# Altium footprint library CONN_HDR_2.54MM_BOX_IDC.PcbLib: 37 footprints (part 2 of 3)
Each footprint in its own frame and in the unit in brackets; x right, y up, seen from the top. Pads: shape width x height; smd on the part's side, far side on the other; paste and mask are expansions set on the pad; w line width, h text height; cw(c..) or ccw(c..) is an arc to the next point about the centre after c.
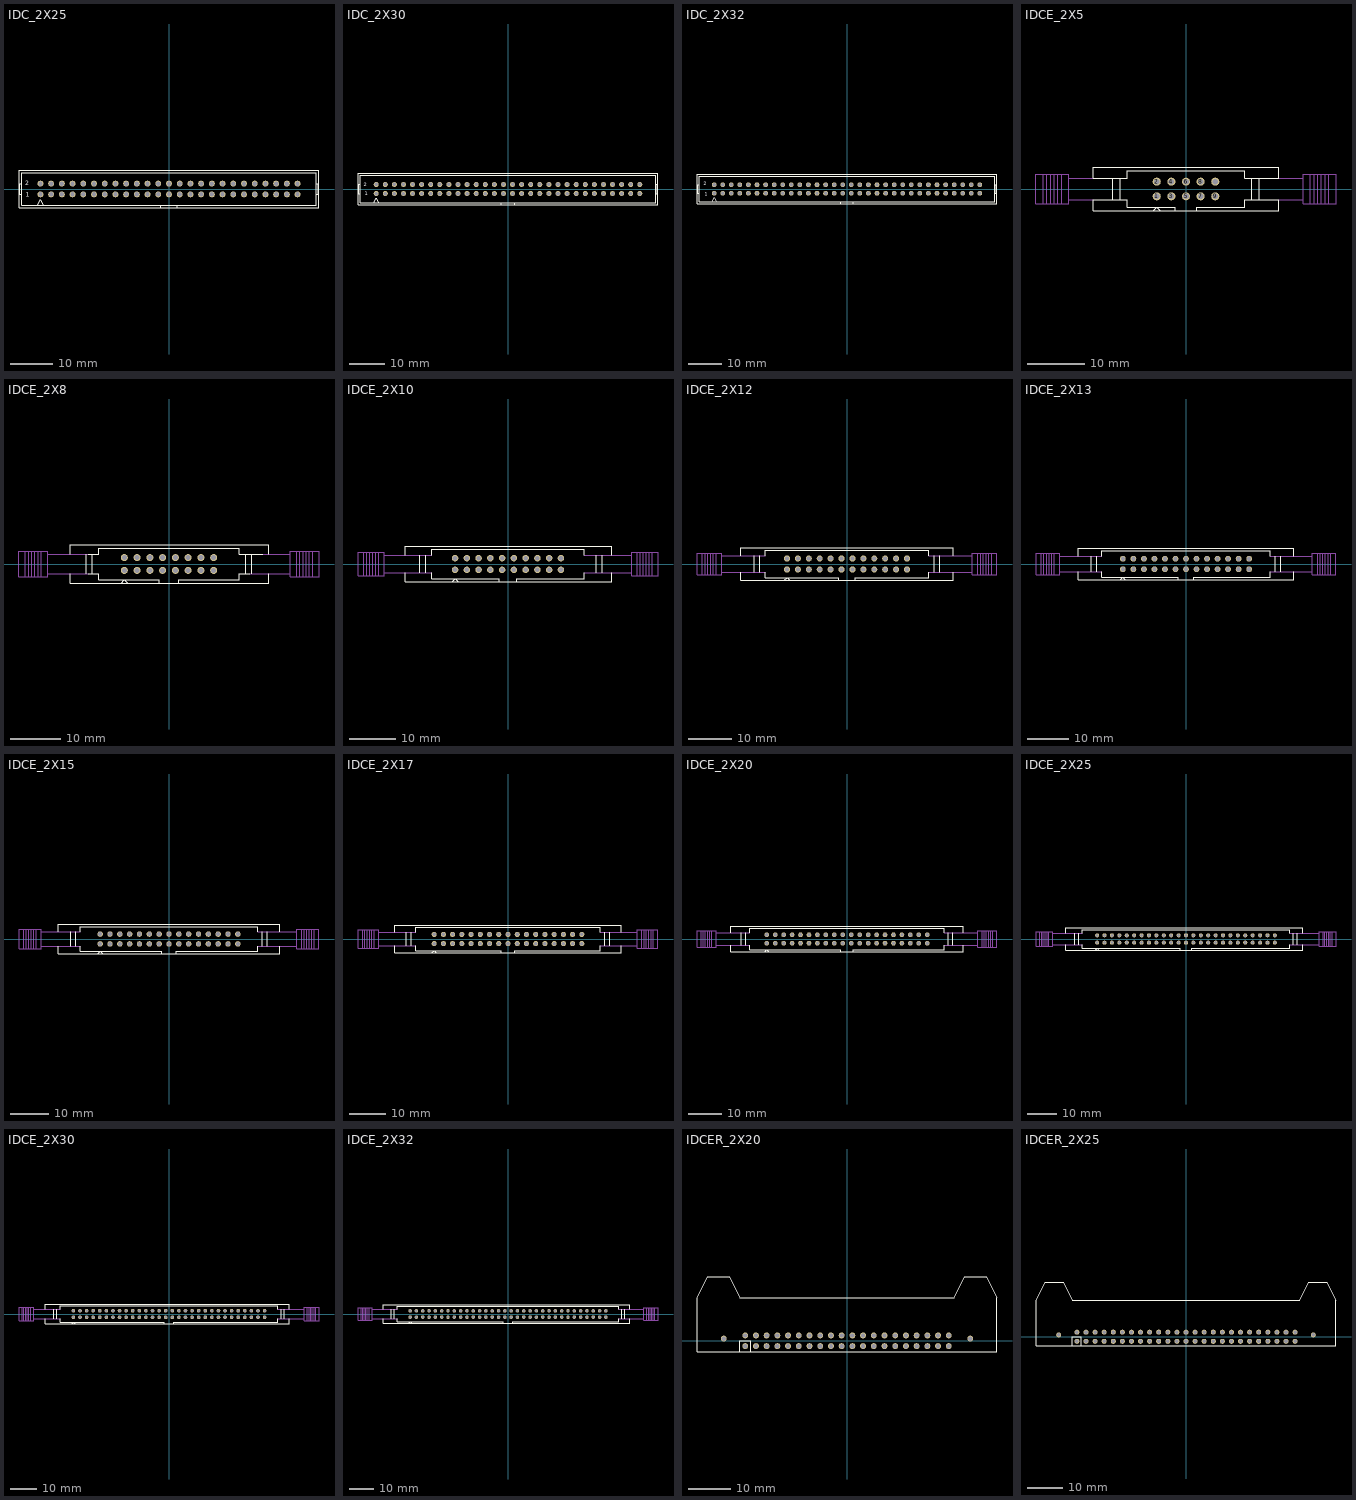
[diagram p1: the footprints below, top view; thin cyan lines are the x and y axes]

## IDC_2X25 [mm]
pads (50):
  round 1.4 / inner round 1.4 / far side oval 1.4x2.2 hole 1 mask+0.1: 1(-30.48,-1.27) 2(-30.48,1.27) 3(-27.94,-1.27) 4(-27.94,1.27) 5(-25.4,-1.27) 6(-25.4,1.27) 7(-22.86,-1.27) 8(-22.86,1.27) 9(-20.32,-1.27) 10(-20.32,1.27) 11(-17.78,-1.27) 12(-17.78,1.27) 13(-15.24,-1.27) 14(-15.24,1.27) 15(-12.7,-1.27) 16(-12.7,1.27) 17(-10.16,-1.27) 18(-10.16,1.27) 19(-7.62,-1.27) 20(-7.62,1.27) 21(-5.08,-1.27) 22(-5.08,1.27) 23(-2.54,-1.27) 24(-2.54,1.27) 25(0,-1.27) 26(0,1.27) 27(2.54,-1.27) 28(2.54,1.27) 29(5.08,-1.27) 30(5.08,1.27) 31(7.62,-1.27) 32(7.62,1.27) 33(10.16,-1.27) 34(10.16,1.27) 35(12.7,-1.27) 36(12.7,1.27) 37(15.24,-1.27) 38(15.24,1.27) 39(17.78,-1.27) 40(17.78,1.27) 41(20.32,-1.27) 42(20.32,1.27) 43(22.86,-1.27) 44(22.86,1.27) 45(25.4,-1.27) 46(25.4,1.27) 47(27.94,-1.27) 48(27.94,1.27) 49(30.48,-1.27) 50(30.48,1.27)
Top Overlay:
  lines w0.2: -35.56,-1.27 -34.925,-1.27 ; -35.56,1.27 -34.925,1.27 ; -35.348,-1.27 -35.348,1.27 ; -31.115,-3.81 -30.48,-2.54 -29.845,-3.81 ; -1.905,-4.445 -1.905,-3.81 ; 1.905,-4.445 1.905,-3.81 ; 34.925,-1.27 35.56,-1.27 ; 34.925,1.27 35.56,1.27 ; 35.348,-1.27 35.348,1.27 ; -1.905,-3.81 1.905,-3.81 ; -1.905,-3.81 -34.925,-3.81 -34.925,3.81 34.925,3.81 34.925,-3.81 1.905,-3.81 ; -35.56,-4.445 35.56,-4.445 35.56,4.445 -35.56,4.445 -35.56,-4.445
  text "2" at -34.112,0.864 h1
  text "1" at -33.909,-1.803 h1
3D body "61205021621.stp": height 9.13, standoff -2.98, extent -35.58,-4.425 35.58,4.75

## IDC_2X30 [mm]
pads (60):
  round 1.4 / inner round 1.4 / far side oval 1.4x2.2 hole 1 mask+0.1: 1(-36.83,-1.27) 2(-36.83,1.27) 3(-34.29,-1.27) 4(-34.29,1.27) 5(-31.75,-1.27) 6(-31.75,1.27) 7(-29.21,-1.27) 8(-29.21,1.27) 9(-26.67,-1.27) 10(-26.67,1.27) 11(-24.13,-1.27) 12(-24.13,1.27) 13(-21.59,-1.27) 14(-21.59,1.27) 15(-19.05,-1.27) 16(-19.05,1.27) 17(-16.51,-1.27) 18(-16.51,1.27) 19(-13.97,-1.27) 20(-13.97,1.27) 21(-11.43,-1.27) 22(-11.43,1.27) 23(-8.89,-1.27) 24(-8.89,1.27) 25(-6.35,-1.27) 26(-6.35,1.27) 27(-3.81,-1.27) 28(-3.81,1.27) 29(-1.27,-1.27) 30(-1.27,1.27) 31(1.27,-1.27) 32(1.27,1.27) 33(3.81,-1.27) 34(3.81,1.27) 35(6.35,-1.27) 36(6.35,1.27) 37(8.89,-1.27) 38(8.89,1.27) 39(11.43,-1.27) 40(11.43,1.27) 41(13.97,-1.27) 42(13.97,1.27) 43(16.51,-1.27) 44(16.51,1.27) 45(19.05,-1.27) 46(19.05,1.27) 47(21.59,-1.27) 48(21.59,1.27) 49(24.13,-1.27) 50(24.13,1.27) 51(26.67,-1.27) 52(26.67,1.27) 53(29.21,-1.27) 54(29.21,1.27) 55(31.75,-1.27) 56(31.75,1.27) 57(34.29,-1.27) 58(34.29,1.27) 59(36.83,-1.27) 60(36.83,1.27)
Top Overlay:
  lines w0.2: -41.91,-1.27 -41.275,-1.27 ; -41.91,1.27 -41.275,1.27 ; -41.698,-1.27 -41.698,1.27 ; -37.465,-3.81 -36.83,-2.54 -36.195,-3.81 ; -1.905,-4.445 -1.905,-3.81 ; 1.905,-4.445 1.905,-3.81 ; 41.275,-1.27 41.91,-1.27 ; 41.275,1.27 41.91,1.27 ; 41.698,-1.27 41.698,1.27 ; -1.905,-3.81 1.905,-3.81 ; -1.905,-3.81 -41.275,-3.81 -41.275,3.81 41.275,3.81 41.275,-3.81 1.905,-3.81 ; -41.91,-4.445 41.91,-4.445 41.91,4.445 -41.91,4.445 -41.91,-4.445
  text "1" at -40.03,-1.676 h1
  text "2" at -40.259,0.813 h1
3D body "61206021621.stp": height 9.13, standoff -2.98, extent -41.93,-4.425 41.93,4.75

## IDC_2X32 [mm]
pads (64):
  round 1.4 / inner round 1.4 / far side oval 1.4x2.2 hole 1 mask+0.1: 1(-39.37,-1.27) 2(-39.37,1.27) 3(-36.83,-1.27) 4(-36.83,1.27) 5(-34.29,-1.27) 6(-34.29,1.27) 7(-31.75,-1.27) 8(-31.75,1.27) 9(-29.21,-1.27) 10(-29.21,1.27) 11(-26.67,-1.27) 12(-26.67,1.27) 13(-24.13,-1.27) 14(-24.13,1.27) 15(-21.59,-1.27) 16(-21.59,1.27) 17(-19.05,-1.27) 18(-19.05,1.27) 19(-16.51,-1.27) 20(-16.51,1.27) 21(-13.97,-1.27) 22(-13.97,1.27) 23(-11.43,-1.27) 24(-11.43,1.27) 25(-8.89,-1.27) 26(-8.89,1.27) 27(-6.35,-1.27) 28(-6.35,1.27) 29(-3.81,-1.27) 30(-3.81,1.27) 31(-1.27,-1.27) 32(-1.27,1.27) 33(1.27,-1.27) 34(1.27,1.27) 35(3.81,-1.27) 36(3.81,1.27) 37(6.35,-1.27) 38(6.35,1.27) 39(8.89,-1.27) 40(8.89,1.27) 41(11.43,-1.27) 42(11.43,1.27) 43(13.97,-1.27) 44(13.97,1.27) 45(16.51,-1.27) 46(16.51,1.27) 47(19.05,-1.27) 48(19.05,1.27) 49(21.59,-1.27) 50(21.59,1.27) 51(24.13,-1.27) 52(24.13,1.27) 53(26.67,-1.27) 54(26.67,1.27) 55(29.21,-1.27) 56(29.21,1.27) 57(31.75,-1.27) 58(31.75,1.27) 59(34.29,-1.27) 60(34.29,1.27) 61(36.83,-1.27) 62(36.83,1.27) 63(39.37,-1.27) 64(39.37,1.27)
Top Overlay:
  lines w0.2: -44.45,-1.27 -43.815,-1.27 ; -44.45,1.27 -43.815,1.27 ; -44.238,-1.27 -44.238,1.27 ; -40.005,-3.81 -39.37,-2.54 -38.735,-3.81 ; -1.905,-4.445 -1.905,-3.81 ; 1.905,-4.445 1.905,-3.81 ; 43.815,-1.27 44.45,-1.27 ; 43.815,1.27 44.45,1.27 ; 44.238,-1.27 44.238,1.27 ; -1.905,-3.81 1.905,-3.81 ; -1.905,-3.81 -43.815,-3.81 -43.815,3.81 43.815,3.81 43.815,-3.81 1.905,-3.81 ; -44.45,-4.445 44.45,-4.445 44.45,4.445 -44.45,4.445 -44.45,-4.445
  text "2" at -42.393,1.041 h1
  text "1" at -42.164,-1.93 h1
3D body "61206421621.stp": height 9.13, standoff -2.98, extent -44.47,-4.425 44.47,4.75

## IDCE_2X5 [mm]
pads (10):
  round 1.4 / inner round 1.4 / far side oval 1.4x2.2 hole 1 mask+0.1: 1(-5.08,-1.27) 2(-5.08,1.27) 3(-2.54,-1.27) 4(-2.54,1.27) 5(0,-1.27) 6(0,1.27) 7(2.54,-1.27) 8(2.54,1.27) 9(5.08,-1.27) 10(5.08,1.27)
Top Overlay:
  lines w0.2: -12.7,-1.905 -12.7,1.905 ; -11.43,-1.905 -11.43,1.905 ; -5.715,-3.81 -5.08,-3.175 -4.445,-3.81 ; -1.905,-3.81 -1.905,-3.175 -10.16,-3.175 -10.16,-1.905 -16.087,-1.905 -16.087,-3.81 16.087,-3.81 16.087,-1.905 10.16,-1.905 10.16,-3.175 1.905,-3.175 1.905,-3.81 ; 11.43,-1.905 11.43,1.905 ; 12.7,-1.905 12.7,1.905 ; -16.087,1.905 -16.087,3.81 16.087,3.81 16.087,1.905 10.16,1.905 10.16,3.175 -10.16,3.175 -10.16,1.905 -16.087,1.905
Mechanical 5:
  lines w0.2: -24.765,-2.54 -24.765,2.54 ; -24.13,-2.54 -24.13,2.54 ; -23.495,-2.54 -23.495,2.54 ; -22.86,-2.54 -22.86,2.54 ; -22.225,-2.54 -22.225,2.54 ; -21.59,-2.54 -21.59,2.54 ; -20.32,-1.905 -16.087,-1.905 ; -20.32,1.905 -16.087,1.905 ; 16.087,-1.905 20.32,-1.905 ; 16.087,1.905 20.32,1.905 ; 21.59,-2.54 21.59,2.54 ; 22.225,-2.54 22.225,2.54 ; 22.86,-2.54 22.86,2.54 ; 23.495,-2.54 23.495,2.54 ; 24.13,-2.54 24.13,2.54 ; 24.765,-2.54 24.765,2.54 ; -26.035,-2.54 -20.32,-2.54 -20.32,2.54 -26.035,2.54 -26.035,-2.54 ; 20.32,-2.54 20.32,2.54 26.035,2.54 26.035,-2.54 20.32,-2.54

## IDCE_2X8 [mm]
pads (16):
  round 1.4 / inner round 1.4 / far side oval 1.4x2.2 hole 1 mask+0.1: 1(-8.89,-1.27) 2(-8.89,1.27) 3(-6.35,-1.27) 4(-6.35,1.27) 5(-3.81,-1.27) 6(-3.81,1.27) 7(-1.27,-1.27) 8(-1.27,1.27) 9(1.27,-1.27) 10(1.27,1.27) 11(3.81,-1.27) 12(3.81,1.27) 13(6.35,-1.27) 14(6.35,1.27) 15(8.89,-1.27) 16(8.89,1.27)
Top Overlay:
  lines w0.2: -19.685,-1.905 -19.685,-3.81 19.897,-3.81 19.897,-1.905 ; -19.685,1.905 -19.685,3.81 19.897,3.81 19.897,1.905 ; -16.51,-1.905 -16.51,1.905 ; -16.087,-1.905 -13.97,-1.905 -13.97,-3.175 -1.905,-3.175 -1.905,-3.81 ; -16.087,1.905 -13.97,1.905 -13.97,3.175 13.97,3.175 13.97,1.905 18.627,1.905 ; -15.24,-1.905 -15.24,1.905 ; -9.525,-3.81 -8.89,-3.175 -8.255,-3.81 ; 1.905,-3.81 1.905,-3.175 13.97,-3.175 13.97,-1.905 16.087,-1.905 ; 15.24,-1.905 15.24,1.905 ; 16.51,-1.905 16.51,1.905
Mechanical 5:
  lines w0.2: -28.575,-2.54 -28.575,2.54 ; -27.94,-2.54 -27.94,2.54 ; -27.305,-2.54 -27.305,2.54 ; -26.67,-2.54 -26.67,2.54 ; -26.035,-2.54 -26.035,2.54 ; -25.4,-2.54 -25.4,2.54 ; -24.13,-1.905 -16.087,-1.905 ; -24.13,1.905 -16.087,1.905 ; 16.087,-1.905 24.13,-1.905 ; 18.627,1.905 24.13,1.905 ; 25.4,-2.54 25.4,2.54 ; 26.035,-2.54 26.035,2.54 ; 26.67,-2.54 26.67,2.54 ; 27.305,-2.54 27.305,2.54 ; 27.94,-2.54 27.94,2.54 ; 28.575,-2.54 28.575,2.54 ; -29.845,-2.54 -24.13,-2.54 -24.13,2.54 -29.845,2.54 -29.845,-2.54 ; 24.13,-2.54 24.13,2.54 29.845,2.54 29.845,-2.54 24.13,-2.54

## IDCE_2X10 [mm]
pads (20):
  round 1.4 / inner round 1.4 / far side oval 1.4x2.2 hole 1 mask+0.1: 1(-11.43,-1.27) 2(-11.43,1.27) 3(-8.89,-1.27) 4(-8.89,1.27) 5(-6.35,-1.27) 6(-6.35,1.27) 7(-3.81,-1.27) 8(-3.81,1.27) 9(-1.27,-1.27) 10(-1.27,1.27) 11(1.27,-1.27) 12(1.27,1.27) 13(3.81,-1.27) 14(3.81,1.27) 15(6.35,-1.27) 16(6.35,1.27) 17(8.89,-1.27) 18(8.89,1.27) 19(11.43,-1.27) 20(11.43,1.27)
Top Overlay:
  lines w0.2: -22.225,-1.905 -22.225,-3.81 22.437,-3.81 22.437,-1.905 ; -22.225,1.905 -22.225,3.81 22.437,3.81 22.437,1.905 ; -19.05,-1.905 -19.05,1.905 ; -17.78,-1.905 -17.78,1.905 ; -16.51,-1.905 -16.51,-3.175 -1.905,-3.175 -1.905,-3.81 ; -16.51,1.905 -16.51,3.175 16.51,3.175 16.51,1.905 ; -12.065,-3.81 -11.43,-3.175 -10.795,-3.81 ; 1.905,-3.81 1.905,-3.175 16.51,-3.175 16.51,-1.905 ; 19.05,-1.905 19.05,1.905 ; 20.32,-1.905 20.32,1.905
Mechanical 5:
  lines w0.2: -31.115,-2.54 -31.115,2.54 ; -30.48,-2.54 -30.48,2.54 ; -29.845,-2.54 -29.845,2.54 ; -29.21,-2.54 -29.21,2.54 ; -28.575,-2.54 -28.575,2.54 ; -27.94,-2.54 -27.94,2.54 ; -26.67,-1.905 -16.51,-1.905 ; -26.67,1.905 -16.51,1.905 ; 16.51,-1.905 26.67,-1.905 ; 16.51,1.905 26.67,1.905 ; 27.94,-2.54 27.94,2.54 ; 28.575,-2.54 28.575,2.54 ; 29.21,-2.54 29.21,2.54 ; 29.845,-2.54 29.845,2.54 ; 30.48,-2.54 30.48,2.54 ; 31.115,-2.54 31.115,2.54 ; -32.385,-2.54 -32.385,2.54 -26.67,2.54 -26.67,-2.54 -32.385,-2.54 ; 26.67,-2.54 26.67,2.54 32.385,2.54 32.385,-2.54 26.67,-2.54

## IDCE_2X12 [mm]
pads (24):
  round 1.4 / inner round 1.4 / far side oval 1.4x2.2 hole 1 mask+0.1: 1(-13.97,-1.27) 2(-13.97,1.27) 3(-11.43,-1.27) 4(-11.43,1.27) 5(-8.89,-1.27) 6(-8.89,1.27) 7(-6.35,-1.27) 8(-6.35,1.27) 9(-3.81,-1.27) 10(-3.81,1.27) 11(-1.27,-1.27) 12(-1.27,1.27) 13(1.27,-1.27) 14(1.27,1.27) 15(3.81,-1.27) 16(3.81,1.27) 17(6.35,-1.27) 18(6.35,1.27) 19(8.89,-1.27) 20(8.89,1.27) 21(11.43,-1.27) 22(11.43,1.27) 22(13.97,-1.27) 24(13.97,1.27)
Top Overlay:
  lines w0.2: -24.765,-1.905 -24.765,-3.81 24.765,-3.81 24.765,-1.905 ; -24.765,1.905 -24.765,3.81 24.765,3.81 24.765,1.905 ; -21.59,-1.905 -21.59,1.905 ; -20.32,-1.905 -20.32,1.905 ; -19.05,-1.905 -19.05,-3.175 -1.905,-3.175 -1.905,-3.81 ; -19.05,1.905 -19.05,3.175 19.05,3.175 19.05,1.905 ; -13.97,-3.81 -14.605,-3.81 -13.97,-3.175 -13.335,-3.81 ; 1.905,-3.81 1.905,-3.175 19.05,-3.175 19.05,-1.905 ; 20.32,-1.905 20.32,1.905 ; 21.59,-1.905 21.59,1.905
Mechanical 5:
  lines w0.2: -33.655,-2.54 -33.655,2.54 ; -33.02,-2.54 -33.02,2.54 ; -32.385,-2.54 -32.385,2.54 ; -31.75,-2.54 -31.75,2.54 ; -31.115,-2.54 -31.115,2.54 ; -30.48,-2.54 -30.48,2.54 ; -29.21,-1.905 -19.05,-1.905 ; -29.21,1.905 -19.05,1.905 ; 19.05,-1.905 29.21,-1.905 ; 19.05,1.905 29.21,1.905 ; 30.48,-2.54 30.48,2.54 ; 31.115,-2.54 31.115,2.54 ; 31.75,-2.54 31.75,2.54 ; 32.385,-2.54 32.385,2.54 ; 33.02,-2.54 33.02,2.54 ; 33.655,-2.54 33.655,2.54 ; -34.925,-2.54 -29.21,-2.54 -29.21,2.54 -34.925,2.54 -34.925,-2.54 ; 29.21,-2.54 34.925,-2.54 34.925,2.54 29.21,2.54 29.21,-2.54

## IDCE_2X13 [mm]
pads (26):
  round 1.4 / inner round 1.4 / far side oval 1.4x2.2 hole 1 mask+0.1: 1(-15.24,-1.27) 2(-15.24,1.27) 3(-12.7,-1.27) 4(-12.7,1.27) 5(-10.16,-1.27) 6(-10.16,1.27) 7(-7.62,-1.27) 8(-7.62,1.27) 9(-5.08,-1.27) 10(-5.08,1.27) 11(-2.54,-1.27) 12(-2.54,1.27) 13(0,-1.27) 14(0,1.27) 15(2.54,-1.27) 16(2.54,1.27) 17(5.08,-1.27) 18(5.08,1.27) 19(7.62,-1.27) 20(7.62,1.27) 21(10.16,-1.27) 22(10.16,1.27) 23(12.7,-1.27) 24(12.7,1.27) 25(15.24,-1.27) 26(15.24,1.27)
Top Overlay:
  lines w0.2: -26.035,-1.905 -26.035,-3.81 26.035,-3.81 26.035,-1.905 ; -26.035,1.905 -26.035,3.81 26.035,3.81 26.035,1.905 ; -22.86,-1.905 -22.86,1.905 ; -21.59,-1.905 -21.59,1.905 ; -20.32,-1.905 -20.32,-3.175 -1.905,-3.175 -1.905,-3.81 ; -20.32,1.905 -20.32,3.175 20.32,3.175 20.32,1.905 ; -15.875,-3.81 -15.24,-3.175 -14.605,-3.81 ; 1.905,-3.81 1.905,-3.175 20.32,-3.175 20.32,-1.905 ; 21.59,-1.905 21.59,1.905 ; 22.86,-1.905 22.86,1.905
Mechanical 5:
  lines w0.2: -34.925,-2.54 -34.925,2.54 ; -34.29,-2.54 -34.29,2.54 ; -33.655,-2.54 -33.655,2.54 ; -33.02,-2.54 -33.02,2.54 ; -32.385,-2.54 -32.385,2.54 ; -31.75,-2.54 -31.75,2.54 ; -30.48,-1.905 -20.32,-1.905 ; -30.48,1.905 -20.32,1.905 ; 20.32,-1.905 30.48,-1.905 ; 20.32,1.905 30.48,1.905 ; 31.75,-2.54 31.75,2.54 ; 32.385,-2.54 32.385,2.54 ; 33.02,-2.54 33.02,2.54 ; 33.655,-2.54 33.655,2.54 ; 34.29,-2.54 34.29,2.54 ; 34.925,-2.54 34.925,2.54 ; -36.195,-2.54 -30.48,-2.54 -30.48,2.54 -36.195,2.54 -36.195,-2.54 ; 30.48,-2.54 36.195,-2.54 36.195,2.54 30.48,2.54 30.48,-2.54

## IDCE_2X15 [mm]
pads (30):
  round 1.4 / inner round 1.4 / far side oval 1.4x2.2 hole 1 mask+0.1: 1(-17.78,-1.27) 2(-17.78,1.27) 3(-15.24,-1.27) 4(-15.24,1.27) 5(-12.7,-1.27) 6(-12.7,1.27) 7(-10.16,-1.27) 8(-10.16,1.27) 9(-7.62,-1.27) 10(-7.62,1.27) 11(-5.08,-1.27) 12(-5.08,1.27) 13(-2.54,-1.27) 14(-2.54,1.27) 15(0,-1.27) 16(0,1.27) 17(2.54,-1.27) 18(2.54,1.27) 19(5.08,-1.27) 20(5.08,1.27) 21(7.62,-1.27) 22(7.62,1.27) 23(10.16,-1.27) 24(10.16,1.27) 25(12.7,-1.27) 26(12.7,1.27) 27(15.24,-1.27) 28(15.24,1.27) 29(17.78,-1.27) 30(17.78,1.27)
Top Overlay:
  lines w0.2: -28.575,-1.905 -28.575,-3.81 28.575,-3.81 28.575,-1.905 ; -28.575,1.905 -28.575,3.81 28.575,3.81 28.575,1.905 ; -25.4,-1.905 -25.4,1.905 ; -24.13,-1.905 -24.13,1.905 ; -22.86,-1.905 -22.86,-3.175 -1.905,-3.175 -1.905,-3.81 ; -22.86,1.905 -22.86,3.175 22.86,3.175 22.86,1.905 ; -18.415,-3.81 -17.78,-3.175 -17.145,-3.81 ; 1.905,-3.81 1.905,-3.175 22.86,-3.175 22.86,-1.905 ; 24.13,-1.905 24.13,1.905 ; 25.4,-1.905 25.4,1.905
Mechanical 5:
  lines w0.2: -37.465,-2.54 -37.465,2.54 ; -36.83,-2.54 -36.83,2.54 ; -36.195,-2.54 -36.195,2.54 ; -35.56,-2.54 -35.56,2.54 ; -34.925,-2.54 -34.925,2.54 ; -34.29,-2.54 -34.29,2.54 ; -33.02,-1.905 -22.86,-1.905 ; -33.02,1.905 -22.86,1.905 ; 22.86,-1.905 33.02,-1.905 ; 22.86,1.905 33.02,1.905 ; 34.29,-2.54 34.29,2.54 ; 34.925,-2.54 34.925,2.54 ; 35.56,-2.54 35.56,2.54 ; 36.195,-2.54 36.195,2.54 ; 36.83,-2.54 36.83,2.54 ; 37.465,-2.54 37.465,2.54 ; -38.735,-2.54 -38.735,2.54 -33.02,2.54 -33.02,-2.54 -38.735,-2.54 ; 33.02,-2.54 38.735,-2.54 38.735,2.54 33.02,2.54 33.02,-2.54

## IDCE_2X17 [mm]
pads (34):
  round 1.4 / inner round 1.4 / far side oval 1.4x2.2 hole 1 mask+0.1: 1(-20.32,-1.27) 2(-20.32,1.27) 3(-17.78,-1.27) 4(-17.78,1.27) 5(-15.24,-1.27) 6(-15.24,1.27) 7(-12.7,-1.27) 8(-12.7,1.27) 9(-10.16,-1.27) 10(-10.16,1.27) 11(-7.62,-1.27) 12(-7.62,1.27) 13(-5.08,-1.27) 14(-5.08,1.27) 15(-2.54,-1.27) 16(-2.54,1.27) 17(0,-1.27) 18(0,1.27) 19(2.54,-1.27) 20(2.54,1.27) 21(5.08,-1.27) 22(5.08,1.27) 23(7.62,-1.27) 24(7.62,1.27) 25(10.16,-1.27) 26(10.16,1.27) 27(12.7,-1.27) 28(12.7,1.27) 29(15.24,-1.27) 30(15.24,1.27) 31(17.78,-1.27) 32(17.78,1.27) 33(20.32,-1.27) 34(20.32,1.27)
Top Overlay:
  lines w0.2: -31.115,-1.905 -31.115,-3.81 31.115,-3.81 31.115,-1.905 ; -31.115,1.905 -31.115,3.81 31.115,3.81 31.115,1.905 ; -27.94,-1.905 -27.94,1.905 ; -26.67,-1.905 -26.67,1.905 ; -25.4,-1.905 -25.4,-3.175 -1.905,-3.175 -1.905,-3.81 ; -25.4,1.905 -25.4,3.175 25.4,3.175 25.4,1.905 ; -20.955,-3.81 -20.32,-3.175 -19.685,-3.81 ; 1.905,-3.81 1.905,-3.175 25.4,-3.175 25.4,-1.905 ; 26.67,-1.905 26.67,1.905 ; 27.94,-1.905 27.94,1.905
Mechanical 5:
  lines w0.2: -40.005,-2.54 -40.005,2.54 ; -39.37,-2.54 -39.37,2.54 ; -38.735,-2.54 -38.735,2.54 ; -38.1,-2.54 -38.1,2.54 ; -37.465,-2.54 -37.465,2.54 ; -36.83,-2.54 -36.83,2.54 ; -35.56,-1.905 -25.4,-1.905 ; -35.56,1.905 -25.4,1.905 ; 25.4,-1.905 35.56,-1.905 ; 25.4,1.905 35.56,1.905 ; 36.83,-2.54 36.83,2.54 ; 37.465,-2.54 37.465,2.54 ; 38.1,-2.54 38.1,2.54 ; 38.735,-2.54 38.735,2.54 ; 39.37,-2.54 39.37,2.54 ; 40.005,-2.54 40.005,2.54 ; -41.275,-2.54 -35.56,-2.54 -35.56,2.54 -41.275,2.54 -41.275,-2.54 ; 35.56,-2.54 41.275,-2.54 41.275,2.54 35.56,2.54 35.56,-2.54

## IDCE_2X20 [mm]
pads (40):
  round 1.4 / inner round 1.4 / far side oval 1.4x2.2 hole 1 mask+0.1: 1(-24.13,-1.27) 2(-24.13,1.27) 3(-21.59,-1.27) 4(-21.59,1.27) 5(-19.05,-1.27) 6(-19.05,1.27) 7(-16.51,-1.27) 8(-16.51,1.27) 9(-13.97,-1.27) 10(-13.97,1.27) 11(-11.43,-1.27) 12(-11.43,1.27) 13(-8.89,-1.27) 14(-8.89,1.27) 15(-6.35,-1.27) 16(-6.35,1.27) 17(-3.81,-1.27) 18(-3.81,1.27) 19(-1.27,-1.27) 20(-1.27,1.27) 21(1.27,-1.27) 22(1.27,1.27) 23(3.81,-1.27) 24(3.81,1.27) 25(6.35,-1.27) 26(6.35,1.27) 27(8.89,-1.27) 28(8.89,1.27) 29(11.43,-1.27) 30(11.43,1.27) 31(13.97,-1.27) 32(13.97,1.27) 33(16.51,-1.27) 34(16.51,1.27) 35(19.05,-1.27) 36(19.05,1.27) 37(21.59,-1.27) 38(21.59,1.27) 39(24.13,-1.27) 40(24.13,1.27)
Top Overlay:
  lines w0.2: -34.925,-1.905 -34.925,-3.81 34.925,-3.81 34.925,-1.905 ; -34.925,1.905 -34.925,3.81 34.925,3.81 34.925,1.905 ; -31.75,-1.905 -31.75,1.905 ; -30.48,-1.905 -30.48,1.905 ; -29.21,-1.905 -29.21,-3.175 -1.905,-3.175 -1.905,-3.81 ; -29.21,1.905 -29.21,3.175 29.21,3.175 29.21,1.905 ; -24.765,-3.81 -24.13,-3.175 -23.495,-3.81 ; 1.905,-3.81 1.905,-3.175 29.21,-3.175 29.21,-1.905 ; 30.48,-1.905 30.48,1.905 ; 31.75,-1.905 31.75,1.905
Mechanical 5:
  lines w0.2: -43.815,-2.54 -43.815,2.54 ; -43.18,-2.54 -43.18,2.54 ; -42.545,-2.54 -42.545,2.54 ; -41.91,-2.54 -41.91,2.54 ; -41.275,-2.54 -41.275,2.54 ; -40.64,-2.54 -40.64,2.54 ; -39.37,-1.905 -29.21,-1.905 ; -39.37,1.905 -29.21,1.905 ; 29.21,-1.905 39.37,-1.905 ; 29.21,1.905 39.37,1.905 ; 40.64,-2.54 40.64,2.54 ; 41.275,-2.54 41.275,2.54 ; 41.91,-2.54 41.91,2.54 ; 42.545,-2.54 42.545,2.54 ; 43.18,-2.54 43.18,2.54 ; 43.815,-2.54 43.815,2.54 ; -45.085,-2.54 -45.085,2.54 -39.37,2.54 -39.37,-2.54 -45.085,-2.54 ; 39.37,-2.54 39.37,2.54 45.085,2.54 45.085,-2.54 39.37,-2.54

## IDCE_2X25 [mm]
pads (50):
  round 1.4 / inner round 1.4 / far side oval 1.4x2.2 hole 1 mask+0.1: 1(-30.48,-1.27) 2(-30.48,1.27) 3(-27.94,-1.27) 4(-27.94,1.27) 5(-25.4,-1.27) 6(-25.4,1.27) 7(-22.86,-1.27) 8(-22.86,1.27) 9(-20.32,-1.27) 10(-20.32,1.27) 11(-17.78,-1.27) 12(-17.78,1.27) 13(-15.24,-1.27) 14(-15.24,1.27) 15(-12.7,-1.27) 16(-12.7,1.27) 17(-10.16,-1.27) 18(-10.16,1.27) 19(-7.62,-1.27) 20(-7.62,1.27) 21(-5.08,-1.27) 22(-5.08,1.27) 23(-2.54,-1.27) 24(-2.54,1.27) 25(0,-1.27) 26(0,1.27) 27(2.54,-1.27) 28(2.54,1.27) 29(5.08,-1.27) 30(5.08,1.27) 31(7.62,-1.27) 32(7.62,1.27) 33(10.16,-1.27) 34(10.16,1.27) 35(12.7,-1.27) 36(12.7,1.27) 37(15.24,-1.27) 38(15.24,1.27) 39(17.78,-1.27) 40(17.78,1.27) 41(20.32,-1.27) 42(20.32,1.27) 43(22.86,-1.27) 44(22.86,1.27) 45(25.4,-1.27) 46(25.4,1.27) 47(27.94,-1.27) 48(27.94,1.27) 49(30.48,-1.27) 50(30.48,1.27)
Top Overlay:
  lines w0.2: -41.275,-1.905 -41.275,-3.81 40.005,-3.81 40.005,-1.905 ; -41.275,1.905 -41.275,3.81 40.005,3.81 40.005,1.905 ; -38.1,-1.905 -38.1,1.905 ; -36.83,-1.905 -36.83,1.905 ; -35.56,-1.905 -35.56,-3.175 -1.905,-3.175 -1.905,-3.81 ; -35.56,1.905 -35.56,3.175 35.56,3.175 35.56,1.905 ; -31.115,-3.81 -30.48,-3.175 -29.845,-3.81 ; 1.905,-3.81 1.905,-3.175 35.56,-3.175 35.56,-1.905 ; 36.83,-1.905 36.83,1.905 ; 38.1,-1.905 38.1,1.905
Mechanical 5:
  lines w0.2: -50.165,-2.54 -50.165,2.54 ; -49.53,-2.54 -49.53,2.54 ; -48.895,-2.54 -48.895,2.54 ; -48.26,-2.54 -48.26,2.54 ; -47.625,-2.54 -47.625,2.54 ; -46.99,-2.54 -46.99,2.54 ; -45.72,-1.905 -35.56,-1.905 ; -45.72,1.905 -35.56,1.905 ; 35.56,-1.905 45.72,-1.905 ; 35.56,1.905 45.72,1.905 ; 46.99,-2.54 46.99,2.54 ; 47.625,-2.54 47.625,2.54 ; 48.26,-2.54 48.26,2.54 ; 48.895,-2.54 48.895,2.54 ; 49.53,-2.54 49.53,2.54 ; 50.165,-2.54 50.165,2.54 ; -51.435,-2.54 -51.435,2.54 -45.72,2.54 -45.72,-2.54 -51.435,-2.54 ; 45.72,-2.54 45.72,2.54 51.435,2.54 51.435,-2.54 45.72,-2.54

## IDCE_2X30 [mm]
pads (60):
  round 1.4 / inner round 1.4 / far side oval 1.4x2.2 hole 1 mask+0.1: 1(-36.83,-1.27) 2(-36.83,1.27) 3(-34.29,-1.27) 4(-34.29,1.27) 5(-31.75,-1.27) 6(-31.75,1.27) 7(-29.21,-1.27) 8(-29.21,1.27) 9(-26.67,-1.27) 10(-26.67,1.27) 11(-24.13,-1.27) 12(-24.13,1.27) 13(-21.59,-1.27) 14(-21.59,1.27) 15(-19.05,-1.27) 16(-19.05,1.27) 17(-16.51,-1.27) 18(-16.51,1.27) 19(-13.97,-1.27) 20(-13.97,1.27) 21(-11.43,-1.27) 22(-11.43,1.27) 23(-8.89,-1.27) 24(-8.89,1.27) 25(-6.35,-1.27) 26(-6.35,1.27) 27(-3.81,-1.27) 28(-3.81,1.27) 29(-1.27,-1.27) 30(-1.27,1.27) 31(1.27,-1.27) 32(1.27,1.27) 33(3.81,-1.27) 34(3.81,1.27) 35(6.35,-1.27) 36(6.35,1.27) 37(8.89,-1.27) 38(8.89,1.27) 39(11.43,-1.27) 40(11.43,1.27) 41(13.97,-1.27) 42(13.97,1.27) 43(16.51,-1.27) 44(16.51,1.27) 45(19.05,-1.27) 46(19.05,1.27) 47(21.59,-1.27) 48(21.59,1.27) 49(24.13,-1.27) 50(24.13,1.27) 51(26.67,-1.27) 52(26.67,1.27) 53(29.21,-1.27) 54(29.21,1.27) 55(31.75,-1.27) 56(31.75,1.27) 57(34.29,-1.27) 58(34.29,1.27) 59(36.83,-1.27) 60(36.83,1.27)
Top Overlay:
  lines w0.2: -47.625,-1.905 -47.625,-3.81 46.355,-3.81 46.355,-1.905 ; -47.625,1.905 -47.625,3.81 46.355,3.81 46.355,1.905 ; -44.45,-1.905 -44.45,1.905 ; -43.18,-1.905 -43.18,1.905 ; -41.91,-1.905 -41.91,-3.175 -1.905,-3.175 -1.905,-3.81 ; -41.91,1.905 -41.91,3.175 41.91,3.175 41.91,1.905 ; -37.465,-3.81 -36.83,-3.175 -36.195,-3.81 ; 1.905,-3.81 1.905,-3.175 41.91,-3.175 41.91,-1.905 ; 43.18,-1.905 43.18,1.905 ; 44.45,-1.905 44.45,1.905
Mechanical 5:
  lines w0.2: -56.515,-2.54 -56.515,2.54 ; -55.88,-2.54 -55.88,2.54 ; -55.245,-2.54 -55.245,2.54 ; -54.61,-2.54 -54.61,2.54 ; -53.975,-2.54 -53.975,2.54 ; -53.34,-2.54 -53.34,2.54 ; -52.07,-1.905 -41.91,-1.905 ; -52.07,1.905 -41.91,1.905 ; 41.91,-1.905 52.07,-1.905 ; 41.91,1.905 52.07,1.905 ; 53.34,-2.54 53.34,2.54 ; 53.975,-2.54 53.975,2.54 ; 54.61,-2.54 54.61,2.54 ; 55.245,-2.54 55.245,2.54 ; 55.88,-2.54 55.88,2.54 ; 56.515,-2.54 56.515,2.54 ; -57.785,-2.54 -57.785,2.54 -52.07,2.54 -52.07,-2.54 -57.785,-2.54 ; 52.07,-2.54 52.07,2.54 57.785,2.54 57.785,-2.54 52.07,-2.54

## IDCE_2X32 [mm]
pads (64):
  round 1.4 / inner round 1.4 / far side oval 1.4x2.2 hole 1 mask+0.1: 1(-39.37,-1.27) 2(-39.37,1.27) 3(-36.83,-1.27) 4(-36.83,1.27) 5(-34.29,-1.27) 6(-34.29,1.27) 7(-31.75,-1.27) 8(-31.75,1.27) 9(-29.21,-1.27) 10(-29.21,1.27) 11(-26.67,-1.27) 12(-26.67,1.27) 13(-24.13,-1.27) 14(-24.13,1.27) 15(-21.59,-1.27) 16(-21.59,1.27) 17(-19.05,-1.27) 18(-19.05,1.27) 19(-16.51,-1.27) 20(-16.51,1.27) 21(-13.97,-1.27) 22(-13.97,1.27) 23(-11.43,-1.27) 24(-11.43,1.27) 25(-8.89,-1.27) 26(-8.89,1.27) 27(-6.35,-1.27) 28(-6.35,1.27) 29(-3.81,-1.27) 30(-3.81,1.27) 31(-1.27,-1.27) 32(-1.27,1.27) 33(1.27,-1.27) 34(1.27,1.27) 35(3.81,-1.27) 36(3.81,1.27) 37(6.35,-1.27) 38(6.35,1.27) 39(8.89,-1.27) 40(8.89,1.27) 41(11.43,-1.27) 42(11.43,1.27) 43(13.97,-1.27) 44(13.97,1.27) 45(16.51,-1.27) 46(16.51,1.27) 47(19.05,-1.27) 48(19.05,1.27) 49(21.59,-1.27) 50(21.59,1.27) 51(24.13,-1.27) 52(24.13,1.27) 53(26.67,-1.27) 54(26.67,1.27) 55(29.21,-1.27) 56(29.21,1.27) 57(31.75,-1.27) 58(31.75,1.27) 59(34.29,-1.27) 60(34.29,1.27) 61(36.83,-1.27) 62(36.83,1.27) 63(39.37,-1.27) 64(39.37,1.27)
Top Overlay:
  lines w0.2: -50.165,-1.905 -50.165,-3.81 48.895,-3.81 48.895,-1.905 ; -50.165,1.905 -50.165,3.81 48.895,3.81 48.895,1.905 ; -46.99,-1.905 -46.99,1.905 ; -45.72,-1.905 -45.72,1.905 ; -44.45,-1.905 -44.45,-3.175 -1.905,-3.175 -1.905,-3.81 ; -44.45,1.905 -44.45,3.175 44.45,3.175 44.45,1.905 ; -40.005,-3.81 -39.37,-3.175 -38.735,-3.81 ; 1.905,-3.81 1.905,-3.175 44.45,-3.175 44.45,-1.905 ; 45.72,-1.905 45.72,1.905 ; 46.99,-1.905 46.99,1.905
Mechanical 5:
  lines w0.2: -59.055,-2.54 -59.055,2.54 ; -58.42,-2.54 -58.42,2.54 ; -57.785,-2.54 -57.785,2.54 ; -57.15,-2.54 -57.15,2.54 ; -56.515,-2.54 -56.515,2.54 ; -55.88,-2.54 -55.88,2.54 ; -54.61,-1.905 -44.45,-1.905 ; -54.61,1.905 -44.45,1.905 ; 44.45,-1.905 54.61,-1.905 ; 44.45,1.905 54.61,1.905 ; 55.88,-2.54 55.88,2.54 ; 56.515,-2.54 56.515,2.54 ; 57.15,-2.54 57.15,2.54 ; 57.785,-2.54 57.785,2.54 ; 58.42,-2.54 58.42,2.54 ; 59.055,-2.54 59.055,2.54 ; -60.325,-2.54 -60.325,2.54 -54.61,2.54 -54.61,-2.54 -60.325,-2.54 ; 54.61,-2.54 60.325,-2.54 60.325,2.54 54.61,2.54 54.61,-2.54

## IDCER_2X20 [mm]
pads (42):
  round 1.4 / inner round 1.4 / far side oval 1.4x2.2 hole 1: 1(-24.13,-1.27) 2(-24.13,1.27) 3(-21.59,-1.27) 4(-21.59,1.27) 5(-19.05,-1.27) 6(-19.05,1.27) 7(-16.51,-1.27) 8(-16.51,1.27) 9(-13.97,-1.27) 10(-13.97,1.27) 11(-11.43,-1.27) 12(-11.43,1.27) 13(-8.89,-1.27) 14(-8.89,1.27) 15(-6.35,-1.27) 16(-6.35,1.27) 17(-3.81,-1.27) 18(-3.81,1.27) 19(-1.27,-1.27) 20(-1.27,1.27) 21(1.27,-1.27) 22(1.27,1.27) 23(3.81,-1.27) 24(3.81,1.27) 25(6.35,-1.27) 26(6.35,1.27) 27(8.89,-1.27) 28(8.89,1.27) 29(11.43,-1.27) 30(11.43,1.27) 31(13.97,-1.27) 32(13.97,1.27) 33(16.51,-1.27) 34(16.51,1.27) 35(19.05,-1.27) 36(19.05,1.27) 37(21.59,-1.27) 38(21.59,1.27) 39(24.13,-1.27) 40(24.13,1.27) 41(-29.21,0.508) 42(29.21,0.508)
Top Overlay:
  lines w0.2: -25.4,-2.54 -25.4,0 -22.86,0 -22.86,-2.54 ; -35.56,-2.54 35.56,-2.54 35.56,10.16 33.02,15.24 27.94,15.24 25.4,10.16 -25.4,10.16 -27.94,15.24 -33.02,15.24 -35.56,10.16 -35.56,-2.54

## IDCER_2X25 [mm]
pads (52):
  round 1.4 / inner round 1.4 / far side oval 1.4x2.2 hole 1: 1(-30.48,-1.27) 2(-30.48,1.27) 3(-27.94,-1.27) 4(-27.94,1.27) 5(-25.4,-1.27) 6(-25.4,1.27) 7(-22.86,-1.27) 8(-22.86,1.27) 9(-20.32,-1.27) 10(-20.32,1.27) 11(-17.78,-1.27) 12(-17.78,1.27) 13(-15.24,-1.27) 14(-15.24,1.27) 15(-12.7,-1.27) 16(-12.7,1.27) 17(-10.16,-1.27) 18(-10.16,1.27) 19(-7.62,-1.27) 20(-7.62,1.27) 21(-5.08,-1.27) 22(-5.08,1.27) 23(-2.54,-1.27) 24(-2.54,1.27) 25(0,-1.27) 26(0,1.27) 27(2.54,-1.27) 28(2.54,1.27) 29(5.08,-1.27) 30(5.08,1.27) 31(7.62,-1.27) 32(7.62,1.27) 33(10.16,-1.27) 34(10.16,1.27) 35(12.7,-1.27) 36(12.7,1.27) 37(15.24,-1.27) 38(15.24,1.27) 39(17.78,-1.27) 40(17.78,1.27) 41(20.32,-1.27) 42(20.32,1.27) 43(22.86,-1.27) 44(22.86,1.27) 45(25.4,-1.27) 46(25.4,1.27) 47(27.94,-1.27) 48(27.94,1.27) 49(30.48,-1.27) 50(30.48,1.27) 51(-35.56,0.508) 52(35.56,0.508)
Top Overlay:
  lines w0.2: -31.75,-2.54 -31.75,0 -29.21,0 -29.21,-2.54 ; -41.91,-2.54 -41.91,10.16 -39.37,15.24 -34.29,15.24 -31.75,10.16 31.75,10.16 34.29,15.24 39.37,15.24 41.91,10.16 41.91,-2.54 -41.91,-2.54